# Altium footprint library RESC160X80X50L30N.PcbLib: 1 footprints
Each footprint in its own frame and in the unit in brackets; x right, y up, seen from the top. Pads: shape width x height; smd on the part's side, far side on the other; paste and mask are expansions set on the pad; w line width, h text height; cw(c..) or ccw(c..) is an arc to the next point about the centre after c.
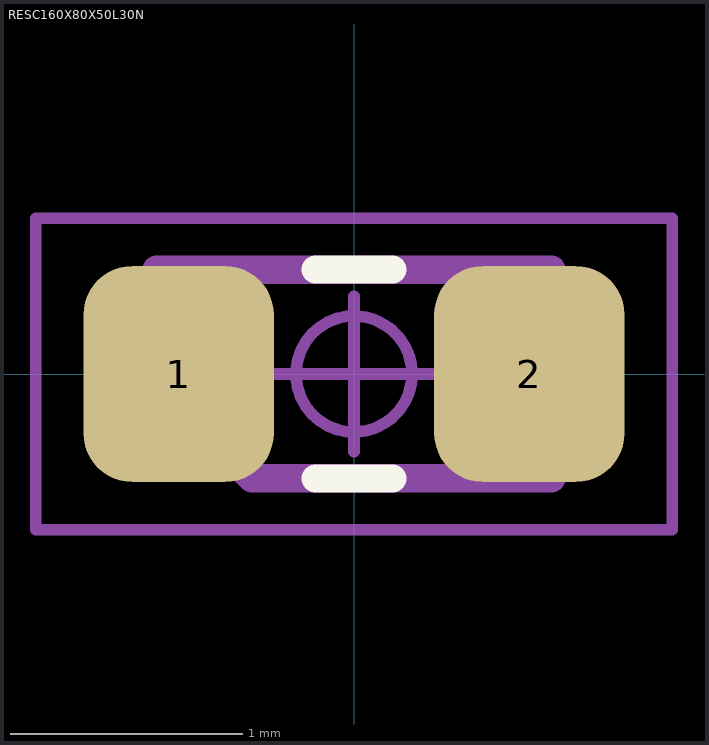
[diagram p0: the footprint, top view; thin cyan lines are the x and y axes]

## RESC160X80X50L30N [mm] "Resistor, Chip; 1.60 mm L X 0.80 mm W X 0.50 mm H body"
height 0.5
pads (2):
  rrect51% 0.82x0.93 smd: 1(-0.755,0) 2(0.755,0)
Top Overlay:
  lines w0.12: -0.165,-0.45 0.165,-0.45 ; -0.165,0.45 0.165,0.45
Mechanical 3:
  lines w0.12: -0.85,-0.039 -0.439,-0.45 0.85,-0.45 0.85,0.45 -0.85,0.45 -0.85,-0.039
Mechanical 5:
  lines w0.025: -0.8,-0.4 -0.5,-0.4 -0.5,0.4 -0.8,0.4 ; -0.8,-0.4 -0.8,0.4 ; -0.8,-0.4 -0.8,0.4 ; -0.8,-0.4 0.8,-0.4 ; -0.8,0.4 0.8,0.4 ; 0.8,-0.4 0.8,0.4 ; 0.8,-0.4 0.5,-0.4 0.5,0.4 0.8,0.4 ; 0.8,-0.4 0.8,0.4
Mechanical 7:
  circle w0.05: c0,0 r0.25
  lines w0.05: -0.335,0 0.335,0 ; 0,-0.335 0,0.335 ; -1.37,-0.67 -1.37,0.67 1.37,0.67 1.37,-0.67 -1.37,-0.67
Mechanical 9:
  text "'.Designator'" at -5.334,-0.254 h1
3D body "RESC160X80X50L30.STEP": height 0.5, standoff 0, extent -0.8,-0.4 0.8,0.4
3D body: height 1, standoff 0, extent -1.37,-0.67 1.37,0.67